# Altium schematic symbol library KAM31NR81H334KU.SchLib: 1 symbol
Pins are listed as number, name and electrical type; pins without a type are passive.

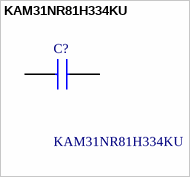
[diagram p0: symbol KAM31NR81H334KU]

## KAM31NR81H334KU
designator C?
Multilayer Ceramic Capacitors MLCC - SMD/SMT 50V .33uF X8R 1206 1 0% AEC-Q200; Manufacturer_Name: Kyocera AVX; Geometry.Height: 1.27mm; Mouser Part Number: 581-KAM31NR81H334KU; Mouser Price/Stock: https://www.mouser.co.uk/ProductDetail/KYOCERA-AVX/KAM31NR81H334KU?qs=Jm2GQyTW%2FbjfQRGsq6IRfw%3D%3D; Manufacturer_Part_Number: KAM31NR81H334KU; Datasheet Link: https://spicat.kyocera-avx.com/product/KAM31NR81H334KU
footprint CAPC3216X127N
pins: 1, 2